# Altium footprint library Components.PcbLib: 24 footprints (part 1 of 2)
Each footprint in its own frame and in the unit in brackets; x right, y up, seen from the top. Pads: shape width x height; smd on the part's side, far side on the other; paste and mask are expansions set on the pad; w line width, h text height; cw(c..) or ccw(c..) is an arc to the next point about the centre after c.
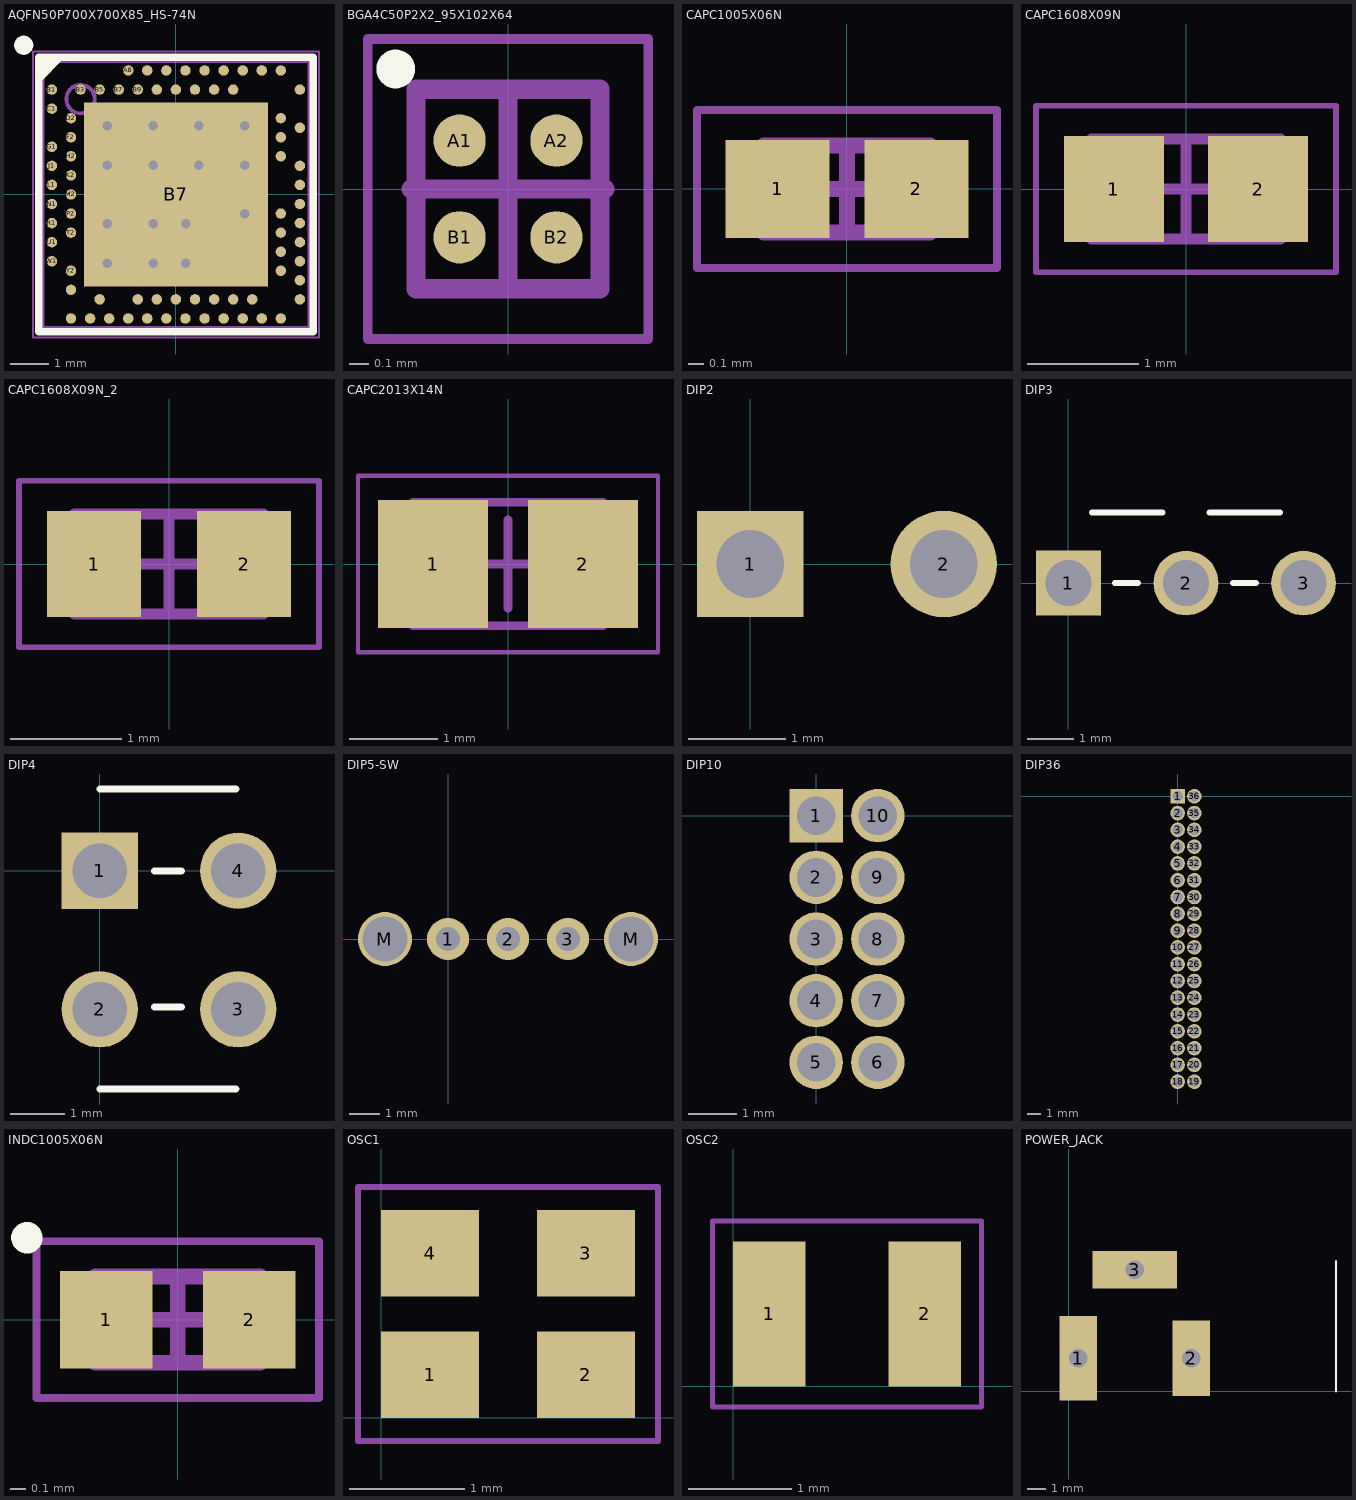
[diagram p0: the footprints below, top view; thin cyan lines are the x and y axes]

## AQFN50P700X700X85_HS-74N [mm]
pads (74):
  round 0.275 smd paste+0.012 mask+0.05: A8(-1.25,3.25) A10(-0.75,3.25) A12(-0.25,3.25) A14(0.25,3.25) A16(0.75,3.25) A18(1.25,3.25) A20(1.75,3.25) A22(2.25,3.25) A23(2.75,3.25) AA24(3.25,-2.25) AB2(-2.75,-2.5) AC5(-2,-2.75) AC9(-1,-2.75) AC11(-0.5,-2.75) AC13(0,-2.75) AC15(0.5,-2.75) AC17(1,-2.75) AC19(1.5,-2.75) AC21(2,-2.75) AC24(3.25,-2.75) AD2(-2.75,-3.25) AD4(-2.25,-3.25) AD6(-1.75,-3.25) AD8(-1.25,-3.25) AD10(-0.75,-3.25) AD12(-0.25,-3.25) AD14(0.25,-3.25) AD16(0.75,-3.25) AD18(1.25,-3.25) AD20(1.75,-3.25) AD22(2.25,-3.25) AD23(2.75,-3.25) B1(-3.25,2.75) B3(-2.5,2.75) B5(-2,2.75) B7(-1.5,2.75) B9(-1,2.75) B11(-0.5,2.75) B13(0,2.75) B15(0.5,2.75) B17(1,2.75) B19(1.5,2.75) B24(3.25,2.75) C1(-3.25,2.25) D2(-2.75,2) D23(2.75,2) E24(3.25,1.75) F2(-2.75,1.5) F23(2.75,1.5) G1(-3.25,1.25) H2(-2.75,1) H23(2.75,1) J1(-3.25,0.75) J24(3.25,0.75) K2(-2.75,0.5) L1(-3.25,0.25) L24(3.25,0.25) M2(-2.75,0) N1(-3.25,-0.25) N24(3.25,-0.25) P2(-2.75,-0.5) P23(2.75,-0.5) R1(-3.25,-0.75) R24(3.25,-0.75) T2(-2.75,-1) T23(2.75,-1) U1(-3.25,-1.25) U24(3.25,-1.25) V23(2.75,-1.5) W1(-3.25,-1.75) W24(3.25,-1.75) Y2(-2.75,-2) Y23(2.75,-2)
  rect 4.83x4.83 smd mask+0.05: B7(0,0)
via -1.8,1.8 diameter 0.5 hole 0.25
via -0.6,1.8 diameter 0.5 hole 0.25
via 0.6,1.8 diameter 0.5 hole 0.25
via 1.8,1.8 diameter 0.5 hole 0.25
via -1.8,0.762 diameter 0.5 hole 0.25
via -0.6,0.762 diameter 0.5 hole 0.25
via 0.6,0.762 diameter 0.5 hole 0.25
via 1.8,0.762 diameter 0.5 hole 0.25
via -1.8,-0.762 diameter 0.5 hole 0.25
via -0.6,-0.762 diameter 0.5 hole 0.25
via 0.254,-0.762 diameter 0.5 hole 0.25
via -1.8,-1.8 diameter 0.5 hole 0.25
via -0.6,-1.8 diameter 0.5 hole 0.25
via 0.254,-1.8 diameter 0.5 hole 0.25
via 1.8,-0.508 diameter 0.5 hole 0.25
Top Overlay:
  circle w0.25: c-3.988,3.912 r0.125
  region: -3,3.5 -3.5,3 -3.5,3.5
  lines w0.2: -3.6,-3.6 -3.6,3.6 3.6,3.6 3.6,-3.6 -3.6,-3.6
Mechanical 7:
  circle w0.1: c-2.5,2.5 r0.373
  lines w0.1: -3.5,-3.5 3.5,-3.5 3.5,3.5 -3.5,3.5 -3.5,-3.5
  text ".Designator" at 0.305,0.076 h0.3
Mechanical 15:
  lines w0.05: -3.75,-3.75 -3.75,3.75 3.75,3.75 3.75,-3.75 -3.75,-3.75
  lines w0.1: -0.5,0 0.5,0 ; 0,-0.5 0,0.5
3D body "LGA88C25P25X25_700X700X85.step": height 0.85, standoff 0, extent -3.55,-3.55 3.55,3.55

## BGA4C50P2X2_95X102X64 [mm] "BGA, 4-Leads, Body 0,95x1,02mmx0,64mm, Pitch 0,50mm"
height 0.64
pads (4):
  round 0.27 smd: A1(-0.25,0.25) A2(0.25,0.25) B1(-0.25,-0.25) B2(0.25,-0.25)
Top Overlay:
  circle w0.1: c-0.58,0.62 r0.05
Mechanical 13:
  lines w0.1: -0.475,-0.515 0.475,-0.515 0.475,0.515 -0.475,0.515 -0.475,-0.515
Mechanical 15:
  lines w0.05: -0.725,-0.775 0.725,-0.775 0.725,0.775 -0.725,0.775 -0.725,-0.775
  lines w0.1: -0.5,0 0.5,0 ; 0,-0.5 0,0.5
3D body "BGA4C50P2X2_95X102X64.step": height 0.64, standoff 0, extent -0.475,-0.515 0.475,0.515

## CAPC1005X06N [mm] "Chip Capacitor, 2-Leads, Body 1,00x0,50mm, IPC Medium Density"
height 0.55
pads (2):
  rect 0.66x0.62 smd: 1(-0.44,0) 2(0.44,0)
Mechanical 13:
  lines w0.1: -0.525,-0.275 -0.525,0.275 0.525,0.275 0.525,-0.275 -0.525,-0.275
Mechanical 15:
  lines w0.05: -0.95,-0.5 -0.95,0.5 0.95,0.5 0.95,-0.5 -0.95,-0.5
  lines w0.1: -0.275,0 0.275,0 ; 0,-0.275 0,0.275
3D body "CAPC1005X06N.step": height 0.55, standoff 0, extent -0.525,-0.275 0.525,0.275

## CAPC1608X09N [mm] "Chip Capacitor, 2-Leads, Body 1,60x0,80mm, IPC Medium Density"
height 0.87
pads (2):
  rect 0.9x0.95 smd: 1(-0.65,0) 2(0.65,0)
Mechanical 13:
  lines w0.1: -0.85,-0.45 -0.85,0.45 0.85,0.45 0.85,-0.45 -0.85,-0.45
Mechanical 15:
  lines w0.05: -1.35,-0.75 -1.35,0.75 1.35,0.75 1.35,-0.75 -1.35,-0.75
  lines w0.1: -0.45,0 0.45,0 ; 0,-0.45 0,0.45
3D body "CAPC1608X09N.step": height 0.87, standoff 0, extent -0.85,-0.45 0.85,0.45

## CAPC1608X09N_2 [mm] "Chip Capacitor, 2-Leads, Body 1,60x0,80mm, IPC Medium Density"
height 0.9
pads (2):
  rect 0.85x0.95 smd: 1(-0.675,0) 2(0.675,0)
Mechanical 13:
  lines w0.1: -0.85,-0.45 0.85,-0.45 0.85,0.45 -0.85,0.45 -0.85,-0.45
Mechanical 15:
  lines w0.05: -1.35,-0.75 1.35,-0.75 1.35,0.75 -1.35,0.75 -1.35,-0.75
  lines w0.1: -0.45,0 0.45,0 ; 0,-0.45 0,0.45
3D body "CAPC1608X09N.step": height 0.9, standoff 0, extent -0.85,-0.45 0.85,0.45

## CAPC2013X14N [mm] "Chip Capacitor, 2-Leads, Body 2,00x1,27mm, IPC Medium Density"
height 1.4
pads (2):
  rect 1.25x1.45 smd: 1(-0.85,0) 2(0.85,0)
Mechanical 13:
  lines w0.1: -1.075,-0.7 1.075,-0.7 1.075,0.7 -1.075,0.7 -1.075,-0.7
Mechanical 15:
  lines w0.05: -1.7,-1 1.7,-1 1.7,1 -1.7,1 -1.7,-1
  lines w0.1: -0.5,0 0.5,0 ; 0,-0.5 0,0.5
3D body "CAPC2013X14N.step": height 1.4, standoff 0, extent -1.075,-0.7 1.075,0.7

## DIP2 [mm]
pads (2):
  rect 1.1x1.1 / inner rect 2.5x1.2 / far side rect 1.1x1.1 hole 0.7: 1(0,0)
  round 1.1 / inner oval 2.5x1.2 / far side round 1.1 hole 0.7: 2(2,0)
3D body "894010210.stp": height 5.02, standoff -3.03, extent -2.025,-1.425 3.975,6.175

## DIP3 [mm]
pads (3):
  rect 1.4x1.4 / inner rect 2.5x1.2 / far side rect 1.4x1.4 hole 1: 1(0,0)
  round 1.4 / inner oval 2.5x1.2 / far side round 1.4 hole 1: 2(2.54,0) 3(5.08,0)
Top Overlay:
  lines w0.127: 0.508,1.524 2.032,1.524 ; 1,0 1.5,0 ; 3.048,1.524 4.572,1.524 ; 3.556,0 4.056,0
3D body "Header, Male, 2.54mm, 1x3.STEP": height 8.54, standoff -3, extent -1.27,-1.27 6.35,1.27

## DIP4 [mm]
pads (4):
  rect 1.4x1.4 / inner rect 2.5x1.2 / far side rect 1.4x1.4 hole 1: 1(0,0)
  round 1.4 / inner oval 2.5x1.2 / far side round 1.4 hole 1: 2(0,-2.54) 3(2.54,-2.54) 4(2.54,0)
Top Overlay:
  lines w0.127: 0,-4 2.5,-4 ; 0,1.5 2.5,1.5 ; 1,-2.5 1.5,-2.5 ; 1,0 1.5,0
3D body "2x2 Male Pin Header.STEP": height 10.54, standoff -3, extent -1.225,-3.795 3.775,1.25

## DIP5-SW [mm]
pads (5):
  round 1.4 hole 0.8: 1(0,0) 2(2,0) 3(4,0)
  round 1.8 hole 1.5: M(-2.1,0) M(6.1,0)
3D body "OS102011MS2QN1.stp": height 8.7, standoff -2.8, extent -2.25,-2.175 6.35,2.125

## DIP10 [mm]
pads (10):
  rect 1.1x1.1 / inner rect 2.5x1.2 / far side rect 0.8x0.8 hole 0.8: 1(0,0)
  round 1.1 / inner oval 2.5x1.2 / far side round 0.8 hole 0.8: 2(0,-1.27) 3(0,-2.54) 4(0,-3.81) 5(0,-5.08) 6(1.27,-5.08) 7(1.27,-3.81) 8(1.27,-2.54) 9(1.27,-1.27) 10(1.27,0)
3D body "20021311-0010XXLFc.stp": height 4.3, standoff -2.4, extent -0.875,-5.93 2.125,0.88

## DIP36 [mm]
pads (36):
  rect 1.1x1.1 / inner rect 2.5x1.2 / far side rect 0.9x0.9 hole 0.8: 1(0,0)
  round 1.1 / inner oval 2.5x1.2 / far side round 0.9 hole 0.8: 2(0,-1.27) 3(0,-2.54) 4(0,-3.81) 5(0,-5.08) 6(0,-6.35) 7(0,-7.62) 8(0,-8.89) 9(0,-10.16) 10(0,-11.43) 11(0,-12.7) 12(0,-13.97) 13(0,-15.24) 14(0,-16.51) 15(0,-17.78) 16(0,-19.05) 17(0,-20.32) 18(0,-21.59) 19(1.27,-21.59) 20(1.27,-20.32) 21(1.27,-19.05) 22(1.27,-17.78) 23(1.27,-16.51) 24(1.27,-15.24) 25(1.27,-13.97) 26(1.27,-12.7) 27(1.27,-11.43) 28(1.27,-10.16) 29(1.27,-8.89) 30(1.27,-7.62) 31(1.27,-6.35) 32(1.27,-5.08) 33(1.27,-3.81) 34(1.27,-2.54) 35(1.27,-1.27) 36(1.27,0)
3D body "20021311-0036XXLFc.stp": height 4.3, standoff -2.4, extent -0.85,-22.46 2.15,0.86

## INDC1005X06N [mm] "Chip Inductor, 2-Leads, Body 1,00x0,50mm, IPC Medium Density"
height 0.55
pads (2):
  rect 0.59x0.62 smd: 1(-0.455,0) 2(0.455,0)
Top Overlay:
  circle w0.1: c-0.962,0.522 r0.05
Mechanical 13:
  lines w0.1: -0.525,-0.275 -0.525,0.275 0.525,0.275 0.525,-0.275 -0.525,-0.275
Mechanical 15:
  lines w0.05: -0.9,-0.5 -0.9,0.5 0.9,0.5 0.9,-0.5 -0.9,-0.5
  lines w0.1: -0.275,0 0.275,0 ; 0,-0.275 0,0.275
3D body "INDC1005X06N.step": height 0.55, standoff 0, extent -0.525,-0.275 0.525,0.275

## OSC1 [mm]
pads (4):
  rect 0.85x0.75 smd: 1(0.425,0.375) 2(1.775,0.375) 3(1.775,1.425) 4(0.425,1.425)
Mechanical 15:
  lines w0.05: -0.2,-0.2 2.4,-0.2 2.4,2 -0.2,2 -0.2,-0.2

## OSC2 [mm]
pads (2):
  rect 0.7x1.4 smd: 1(0.35,0.7) 2(1.85,0.7)
Mechanical 15:
  lines w0.05: -0.2,-0.2 2.4,-0.2 2.4,1.6 -0.2,1.6 -0.2,-0.2

## POWER_JACK [mm]
pads (3):
  rect 2x4.5 hole 1 square unplated: 1(0.5,1.75)
  rect 2x4 hole 1 square unplated: 2(6.5,1.75)
  rect 4.5x2 hole 1 square unplated: 3(3.5,6.45)
Top Overlay:
  lines w0.127: 14.2,0 14.2,6.9
3D body "CUI_INC_PJ-202B.step": height 11, standoff -3.5, extent -0.2,-2.8 14.2,6.6